# EAGLE library part RICKK2_BQ24195 (library m2_feather_interposer)
Texas Instruments BQ24195LRGER $2.93 IC CHRG MGMT LI-ION/POL 24VQFN Charger IC Lithium-Ion/Polymer 24-VQFN (4x4) https://www.digikey.com/product-detail/en/texas-instruments/BQ24195LRGER/296-49149-1-ND/9351369
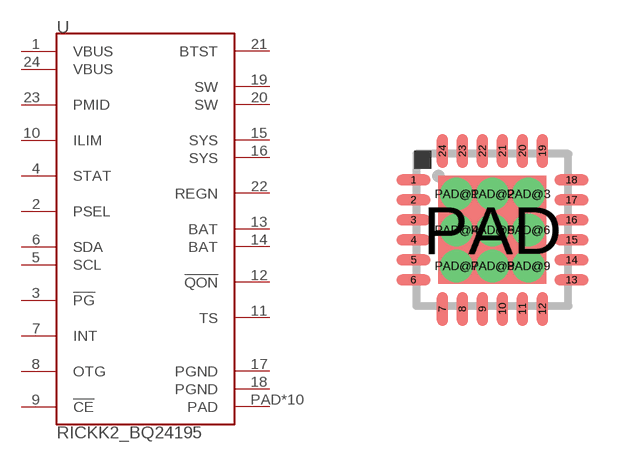
[diagram p5: symbol with the pads of RICKK2_24VFQN-TI; footprint RICKK2_24VFQN-TI]

Designator prefix U

## RICKK2_BQ24195 (VALUE: BQ24195)  [RICKK2_24VFQN-TI]
1  VBUS  pwr
2  PSEL  out
3  !PG  out
4  STAT
5  SCL  out
6  SDA
7  INT
8  OTG
9  !CE  out
10  ILIM  out
11  TS
12  !QON
13  BAT  pas
14  BAT  pwr
15  SYS  pwr
16  SYS  pwr
17  PGND  pas
18  PGND  pas
19  SW  pwr
20  SW  pwr
21  BTST
22  REGN
23  PMID  pas
24  VBUS  pas
PAD  PAD  pwr
PAD@1  PAD  pwr
PAD@2  PAD  pwr
PAD@3  PAD  pwr
PAD@4  PAD  pwr
PAD@5  PAD  pwr
PAD@6  PAD  pwr
PAD@7  PAD  pwr
PAD@8  PAD  pwr
PAD@9  PAD  pwr

## Footprint RICKK2_24VFQN-TI (pad centres in mm)
smd 0.85 x 0.28: 1 -1.975,1.25; 2 -1.975,0.75; 3 -1.975,0.25; 4 -1.975,-0.25; 5 -1.975,-0.75; 6 -1.975,-1.25; 13 1.975,-1.25; 14 1.975,-0.75; 15 1.975,-0.25; 16 1.975,0.25; 17 1.975,0.75; 18 1.975,1.25
smd 0.28 x 0.85: 7 -1.25,-1.975; 8 -0.75,-1.975; 9 -0.25,-1.975; 10 0.25,-1.975; 11 0.75,-1.975; 12 1.25,-1.975; 19 1.25,1.975; 20 0.75,1.975; 21 0.25,1.975; 22 -0.25,1.975; 23 -0.75,1.975; 24 -1.25,1.975
smd 2.7 x 2.7: PAD 0,0
drill 0.3 pad 0.406: PAD@1 -0.9,0.9; PAD@2 0,0.9; PAD@3 0.9,0.9; PAD@4 -0.9,0; PAD@5 0,0; PAD@6 0.9,0; PAD@7 -0.9,-0.9; PAD@8 0,-0.9; PAD@9 0.9,-0.9